# EAGLE library part MOD_RF12B (library akita)
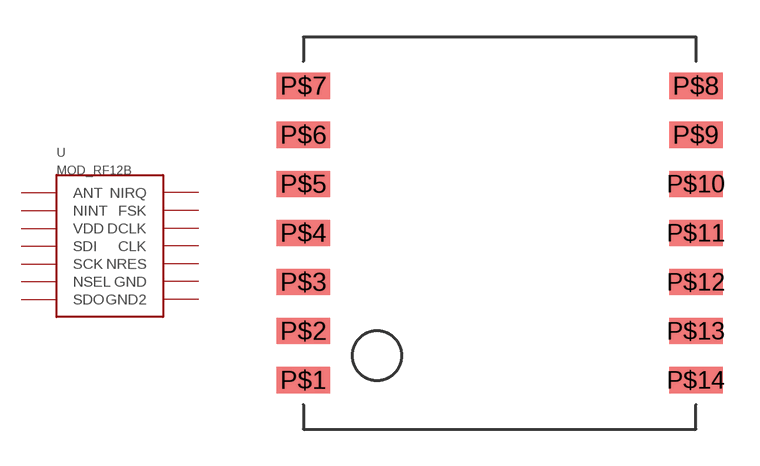
[diagram p18: symbol with the pads of MOD16P_2MM; footprint MOD16P_2MM]

Designator prefix -

## MOD_RF12BSMD  [MOD16P_2MM]
P$1  GND  pwr
P$2  NRES
P$3  CLK
P$4  DCLK
P$5  FSK
P$6  NIRQ
P$7  SDO
P$8  NSEL
P$9  SCK
P$10  SDI
P$11  NINT
P$12  GND2  pwr
P$13  VDD
P$14  ANT

## Footprint MOD16P_2MM (pad centres in mm)
smd 2.184 x 1.067: P$1 -8,-6; P$2 -8,-4; P$3 -8,-2; P$4 -8,0; P$5 -8,2; P$6 -8,4; P$7 -8,6; P$8 8,6; P$9 8,4; P$10 8,2; P$11 8,0; P$12 8,-2; P$13 8,-4; P$14 8,-6